# Altium schematic symbol library RFID.SchLib: 26 symbols
Pins are listed as number, name and electrical type; pins without a type are passive.

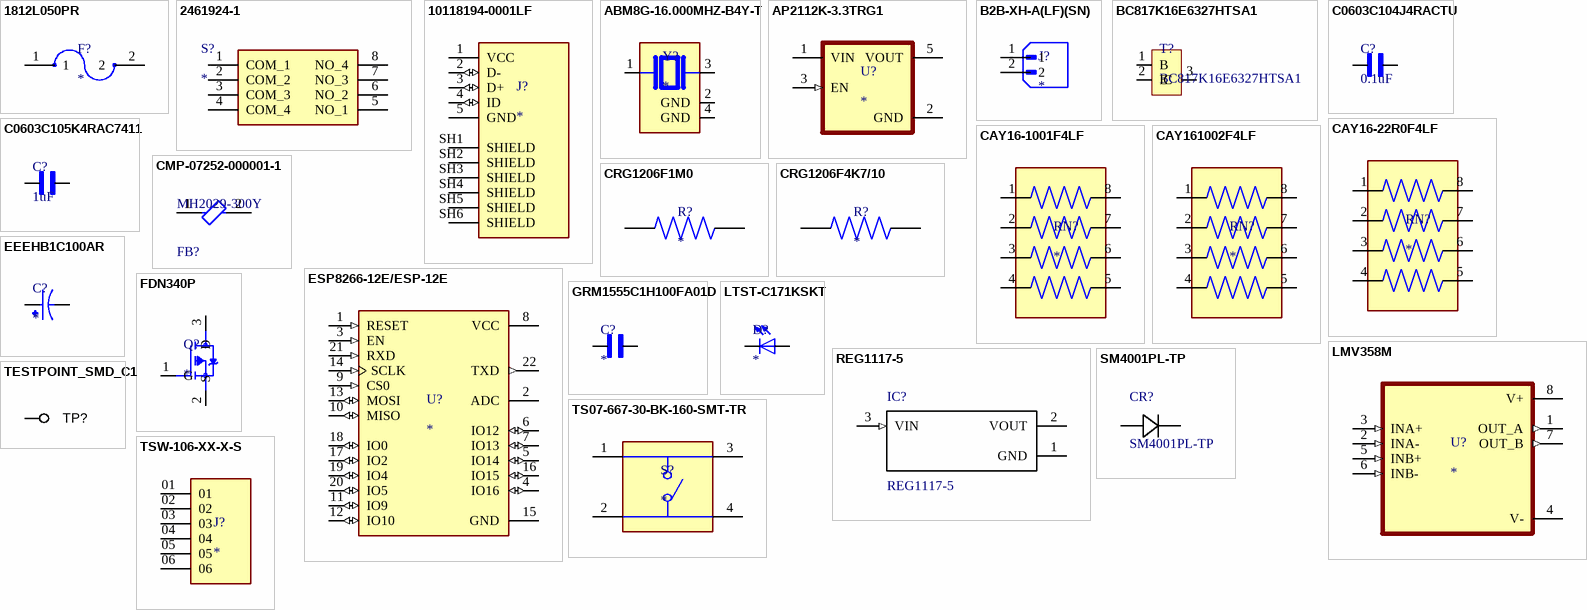
[diagram p0: symbols 1812L050PR to TSW-106-XX-X-S]

## 1812L050PR
designator F?
Polymeric PTC Resettable Fuse 15V 500mA Ih Surface Mount 1812 (4532 Metric), Concave; MP: 1812L050PR; MF: Littelfuse Inc.; Price: None; SnapEDA_Link: https://www.snapeda.com/parts/1812L050PR/Littelfuse%20Inc./view-part/46902/?ref=snap; Check_prices: https://www.snapeda.com/parts/1812L050PR/Littelfuse%20Inc./view-part/46902/?ref=eda; Package: 1812 Littelfuse Inc.; Availability: Good; Value: *; Purchase-URL: https://pricing.snapeda.com/search/part/1812L050PR/?ref=eda
footprint FUSM4632X75
pins: 1, 2

## 2461924-1
designator S?
Switch; Manufacturer_Name: TE Connectivity; Manufacturer_Part_Number: 2461924-1; Datasheet Link: https://www.te.com/commerce/DocumentDelivery/DDEController?Action=showdoc&DocId=Customer+Drawing%7F2461924%7F1%7Fpdf%7FEnglish%7FENG_CD_2461924_1.pdf%7F2461924-1; Height: 3.96mm; Mouser Part Number: 655-2461924-1; Mouser Price/Stock: https://www.mouser.co.uk/ProductDetail/TE-Connectivity-Alcoswitch/2461924-1?qs=1Kr7Jg1SGW%2FU7%2FCcD7QPxQ%3D%3D
footprint 24619241
pins: 1 COM_1, 2 COM_2, 3 COM_3, 4 COM_4, 5 NO_1, 6 NO_2, 7 NO_3, 8 NO_4

## 10118194-0001LF
designator J?
Micro USB, Input Output Connectors, B TYPE RECEPTACLE with flange; MF: Amphenol ICC; MP: 10118194-0001LF; SnapEDA_Link: https://www.snapeda.com/parts/10118194-0001LF/Amphenol+FCI/view-part/?ref=snap; Package: None; Value: *; Check_prices: https://www.snapeda.com/parts/10118194-0001LF/Amphenol+FCI/view-part/?ref=eda
footprint AMPHENOL_10118194-0001LF
pins: 1 VCC (power), 2 D- (io), 3 D+ (io), 4 ID (io), 5 GND (power), SH1 SHIELD, SH2 SHIELD, SH3 SHIELD, SH4 SHIELD, SH5 SHIELD, SH6 SHIELD

## ABM8G-16.000MHZ-B4Y-T
designator Y?
16 MHz Â±30ppm Kristal 10pF 80 Ohm 4-SMD, KurÅŸunsuz; MF: Abracon; MP: ABM8G-16.000MHZ-B4Y-T; Package: SMD-4 Abracon; Price: None; Availability: In Stock; Check_prices: https://www.snapeda.com/parts/ABM8G-16.000MHZ-B4Y-T/Abracon+LLC/view-part/?ref=eda; Purchase-URL: https://pricing.snapeda.com/search/part/ABM8G-16.000MHZ-B4Y-T/?ref=eda; SnapEDA_Link: https://www.snapeda.com/parts/ABM8G-16.000MHZ-B4Y-T/Abracon+LLC/view-part/?ref=snap; Value: *
footprint XTAL_ABM8G-16.000MHZ-B4Y-T
pins: 1, 2 GND (power), 3 2, 4 GND (power)

## AP2112K-3.3TRG1
designator U?
Linear Voltage Regulator IC Positive Fixed 1 Output 600mA SOT-25; MF: Diodes Inc.; MP: AP2112K-3.3TRG1; Value: *; Purchase-URL: https://pricing.snapeda.com/search/part/AP2112K-3.3TRG1/?ref=eda; Package: SOT-753 Diodes Inc.; Availability: In Stock; Check_prices: https://www.snapeda.com/parts/AP2112K-3.3TRG1/Diodes+Inc./view-part/?ref=eda; Price: None; SnapEDA_Link: https://www.snapeda.com/parts/AP2112K-3.3TRG1/Diodes+Inc./view-part/?ref=snap
footprint SOT95P285X140-5N
pins: 1 VIN (power), 2 GND (power), 3 EN (in), 5 VOUT (power)

## B2B-XH-A(LF)(SN)
designator J?
Connector Header Through Hole 2 position 0.098 (2.50mm); MF: JST Sales; MP: B2B-XH-A(LF)(SN); SnapEDA_Link: https://www.snapeda.com/parts/B2B-XH-A(LF)(SN)/JST/view-part/?ref=snap; Package: None; Value: *; Check_prices: https://www.snapeda.com/parts/B2B-XH-A(LF)(SN)/JST/view-part/?ref=eda
footprint JST_B2B-XH-A(LF)(SN)
pins: 1, 2

## BC817K16E6327HTSA1
designator T?
Small Signal Bipolar Transistor, 0.5A I(C), 45V V(BR)CEO, 1-Element, NPN, Silicon; Manufacturer: Infineon; Package Body Material: Plastic; Max Collector Current: 500mA; DC Current Gain-Min (hFE): 100; Number of Elements: 1; Transistor Application: AMPLIFIER; Frequency: 170MHz; Reference Standard: AEC-Q101; Supplier: Arrow Electronics; Supplier Part Number: BC817K16E6327HTSA1; Manufacturer Part Number: BC817K16E6327HTSA1; RoHS: Yes; Category: BJTs; Stock: 27000; Pricing: 3000=0.0597, 6000=0.055, 9000=0.0544, 12000=0.054, 15000=0.0534, 30000=0.0512 (USD); Pins: 3; Package Shape: Rectangular; Transistor Element Material: SILICON; Polarity/Channel Type: NPN; Collector-emitter Voltage-Max: 45V; JESD-30 Code: R-PDSO-G3; Moisture Sensitivity Level: 1; Package Style: SMALL OUTLINEMeter; Surface Mount: Yes; Terminal Form: Gull Wing; Terminal Position: DUAL; Reach SVHC Compliant: Yes; RoHS Compliant: Yes; ComponentLink1URL: https://datasheet.ciiva.com:443/pdfs/VipMasterIC/IC/INFN/INFNS16504/INFNS16504-1.pdf?src-supplier=IHS+Markit; ComponentLink1Description: https://datasheet.ciiva.com:443/pdfs/VipMasterIC/IC/INFN/INFNS16504/INFNS16504-1.pdf?src-supplier=IHS+Markit; ComponentLink2URL: https://datasheet.ciiva.com/25626/0900766b81073eee-25626027.pdf?src-supplier=Rs; ComponentLink2Description: https://datasheet.ciiva.com/25626/0900766b81073eee-25626027.pdf?src-supplier=Rs; ComponentLink3URL: https://datasheet.ciiva.com/11208/infineon-bc817kseries-bc818kseries-ds-v01-01-en-11208254.pdf?src-supplier=Avnet; ComponentLink3Description: https://datasheet.ciiva.com/11208/infineon-bc817kseries-bc818kseries-ds-v01-01-en-11208254.pdf?src-supplier=Avnet
footprint SOT95P245X110-3N (SOT23, 3-Leads, Body 2.90x2.45mm, Pitch 0.95mm, IPC Medium Density)
pins: 1 B (io), 2 E (io), 3 C (io)

## C0603C104J4RACTU
designator C?, comment 0.1uF
Capacitor;Ceramic;Cap;.0.1uF;Tol+5%;SMT;Vol-Rtg 16V;X7R;TR | KEMET C0603C104J4RACTU; SnapEDA_Link: https://www.snapeda.com/parts/C0603C104J4RACTU/KEMET/view-part/?ref=snap; Package: 603-2 KEMET; Value: *; MF: KEMET; MP: C0603C104J4RACTU; Check_prices: https://www.snapeda.com/parts/C0603C104J4RACTU/KEMET/view-part/?ref=eda
footprint CAPC1608X90
pins: 1, 2

## C0603C105K4RAC7411
designator C?, comment 1uF
Multilayer Ceramic Capacitors MLCC / SMD/SMT Multilayer Ceramic / Capacitors MLCC  SMD/SMT 16V / 1uF X7R 0603 10%; MP: C0603C105K4RAC7411; Package: None; Price: None; Value: *; Availability: Unavailable
footprint CAPC1608X90N
pins: 1, 2

## CAY16-22R0F4LF
designator RN?
22 Ohm Â±1% 62.5mW Power Per Element Isolated 4 Resistor Network/Array Â±200ppm/Â°C 1206 (3216 Metric), Convex, Long Side Terminals; MF: Bourns; MP: CAY16-22R0F4LF; SnapEDA_Link: https://www.snapeda.com/parts/CAY16-22R0F4LF/Bourns/view-part/?ref=snap; Package: NON STANDARD-8 Bourns; Value: *; Check_prices: https://www.snapeda.com/parts/CAY16-22R0F4LF/Bourns/view-part/?ref=eda
footprint RESCAF80P320X160X60-8N
pins: 1, 2, 3, 4, 5, 6, 7, 8

## CAY16-1001F4LF
designator RN?
Resistor,Thick Film,Networks & Arrays,1K Ohm,1%,8 Pin | Bourns CAY16-1001F4LF; SnapEDA_Link: https://www.snapeda.com/parts/CAY16-1001F4LF/Bourns/view-part/?ref=snap; Package: NON STANDARD-8 Bourns; Value: *; MF: Bourns; MP: CAY16-1001F4LF; Check_prices: https://www.snapeda.com/parts/CAY16-1001F4LF/Bourns/view-part/?ref=eda
footprint RESCAF80P320X160X60-8N
pins: 1, 2, 3, 4, 5, 6, 7, 8

## CAY161002F4LF
designator RN?
10k Ohm Â±1% 62.5mW Power Per Element Isolated 4 Resistor Network/Array Â±200ppm/Â°C 1206 (3216 Metric), Convex, Long Side Terminals; MF: Bourns Electronics; MP: CAY161002F4LF; SnapEDA_Link: https://www.snapeda.com/parts/CAY161002F4LF/Bourns/view-part/?ref=snap; Package: NON STANDARD-8 Bourns; Value: *; Check_prices: https://www.snapeda.com/parts/CAY161002F4LF/Bourns/view-part/?ref=eda
footprint RESCAF80P320X160X60-8N
pins: 1, 2, 3, 4, 5, 6, 7, 8

## CMP-07252-000001-1
designator FB?, comment MH2029-300Y
FERRITE BEAD 30 OHM 0805 1LN; Manufacturer: Bourns; Series Resistance: 25mΩ; Resistance: 30Ω; Value: 30Ω; Impedance At Frequency: 30Ω @ 100MHz; Rms Current: 3A; Tolerance: 25%; RoHS: TRUE; Manufacturer Part Number: MH2029-300Y; Temperature Range High: +125°C; Device Class L3: Ferrite Beads and Chips; Core Material: Ferrite; ComponentLink2Description: Datasheet; Category: FBead; Octopart: https://octopart.com/mh2029-300y-bourns-756929; Digikey Description: FERRITE BEAD 30 OHM 0805 1LN; Device Class L2: EMI / RFI Components; Lead Free: Yes; Mouser Description: Ferrite Beads 30 ohms 25% HIGH CURRENT; Automotive: No; Ipc Land Pattern Name: CAPC200120X90; Temperature: -55°C to +125°C; Device Class L1: Passive Components; Height: 1.1mm; ComponentLink2URL: https://www.bourns.com/docs/Product-Datasheets/mh.pdf; Package: MH2029; Temperature Range Low: -55°C
footprint FP-MH2029-IPC_A
pins: 1, 2

## CRG1206F1M0
designator R?
Resistor, Thick Film, Res 1 Ohms, Pwr-Rtg 0.25 W, Tol 1%, SMT, 1206 | TE Connectivity CRG1206F1M0; Power_Rating: .25 W; Resistance: 1M; Voltage_Rating: 200 V; SnapEDA_Link: https://www.snapeda.com/parts/CRG1206F1M0/TE+Connectivity+Passive+Product/view-part/?ref=snap; Package: 1206; Value: *; MF: TE Connectivity; MP: CRG1206F1M0; EU_RoHS_Compliance: Compliant with Exemptions; Tolerance: 1%; Check_prices: https://www.snapeda.com/parts/CRG1206F1M0/TE+Connectivity+Passive+Product/view-part/?ref=eda
footprint RESC3115X65N
pins: 1, 2

## CRG1206F4K7/10
designator R?
Res Thick Film 1206 4.7K Ohm 1% 0.25W(1/4W) Â±100ppm/C Pad SMD T/R; Power_Rating: .25 W; MF: TE Connectivity; MP: CRG1206F4K7/10; Voltage_Rating: 200 V; SnapEDA_Link: https://www.snapeda.com/parts/CRG1206F4K7/10/TE+Connectivity/view-part/?ref=snap; Package: 1206; Resistance: 4.7K; Value: *; EU_RoHS_Compliance: Compliant with Exemptions; Tolerance: 1%; Check_prices: https://www.snapeda.com/parts/CRG1206F4K7/10/TE+Connectivity/view-part/?ref=eda
footprint RESC3115X65N
pins: 1, 2

## EEEHB1C100AR
designator C?
10ÂµF 16V Aluminum Electrolytic Capacitors Radial, Can - SMD 2000 Hrs @ 105Â°C; MP: EEE-HB1C100AR; MF: Panasonic; SnapEDA_Link: https://www.snapeda.com/parts/EEE-HB1C100AR/Panasonic/view-part/?ref=snap; Availability: In Stock; Purchase-URL: https://pricing.snapeda.com/search/part/EEE-HB1C100AR/?ref=eda; Price: None; Check_prices: https://www.snapeda.com/parts/EEE-HB1C100AR/Panasonic/view-part/?ref=eda; Value: *; Package: RADIAL-2 Panasonic
footprint CAP_EEEHB1C100AR
pins: 1, 2

## ESP8266-12E/ESP-12E
designator U?
This WiFi module has a 32-bit MCU micro and clock speeds supporting 80 MHz or 160 MHz. Supports the RTOS and integrated Wi-Fi MAC/BB/RF/PA/LNA, and has an on-board antenna.; MF: AI-Thinker; MP: ESP8266-12E/ESP-12E; Value: *; SnapEDA_Link: https://www.snapeda.com/parts/ESP8266-12E/ESP-12E/AI-Thinker/view-part/?ref=snap; Availability: Not in stock; Price: None; Package: None; Check_prices: https://www.snapeda.com/parts/ESP8266-12E/ESP-12E/AI-Thinker/view-part/?ref=eda
footprint XCVR_ESP8266-12E/ESP-12E
pins: 1 RESET (in), 2 ADC, 3 EN (in), 4 IO16 (io), 5 IO14 (io), 6 IO12 (io), 7 IO13 (io), 8 VCC (power), 9 CS0 (in), 10 MISO (io), 11 IO9 (io), 12 IO10 (io), 13 MOSI (io), 14 SCLK (in), 15 GND (power), 16 IO15 (io), 17 IO2 (io), 18 IO0 (io), 19 IO4 (io), 20 IO5 (io), 21 RXD (in), 22 TXD (out)

## FDN340P
designator Q?
P-Channel 20 V 2A (Ta) 500mW (Ta) Surface Mount SOT-23-3; MF: onsemi; MP: FDN340P; SnapEDA_Link: https://www.snapeda.com/parts/FDN340P/Onsemi/view-part/?ref=snap; Package: TO-236-3 ON; Value: *; Check_prices: https://www.snapeda.com/parts/FDN340P/Onsemi/view-part/?ref=eda
footprint SOT95P240X120-3N
pins: 1 G, 2 S, 3 D

## GRM1555C1H100FA01D
designator C?
SMD Capacitor C0G(EIA) with Capacitance: 10pF Tol. 1%. Rated Voltage: 50Vdc; MF: Murata; MP: GRM1555C1H100FA01D; SnapEDA_Link: https://www.snapeda.com/parts/GRM1555C1H100FA01D/Murata/view-part/?ref=snap; Package: 1005-2 Murata; Value: *; Check_prices: https://www.snapeda.com/parts/GRM1555C1H100FA01D/Murata/view-part/?ref=eda
footprint CAPC1005X55N
pins: 1, 2

## LMV358M
designator U?
Dual, 5.5-V, 1-MHz op amp; MF: Texas Instruments; MP: LMV358M/NOPB; SnapEDA_Link: https://www.snapeda.com/parts/LMV358M/NOPB/Texas+Instruments/view-part/?ref=snap; Package: SOIC-8 Texas Instruments; Value: *; Check_prices: https://www.snapeda.com/parts/LMV358M/NOPB/Texas+Instruments/view-part/?ref=eda
footprint SOIC127P599X175-8N
pins: 1 OUT_A (out), 2 INA- (in), 3 INA+ (in), 4 V- (power), 5 INB+ (in), 6 INB- (in), 7 OUT_B (out), 8 V+ (power)

## LTST-C171KSKT
designator D?
Yellow 587nm LED Indication - Discrete 2V 0805 (2012 Metric); MF: Lite-On Inc.; MP: LTST-C171KSKT; SnapEDA_Link: https://www.snapeda.com/parts/LTST-C171KSKT/Lite-On/view-part/?ref=snap; Package: 0805 Lite-On; Value: *; Check_prices: https://www.snapeda.com/parts/LTST-C171KSKT/Lite-On/view-part/?ref=eda
footprint DIOC200X125X110
pins: NEG, POS

## REG1117-5
designator IC?
800-mA, 15-V, linear voltage regulator; MF: Texas Instruments; SnapEDA_Link: https://www.snapeda.com/parts/REG1117-5/Texas+Instruments/view-part/?ref=snap; Package: SOT-223-4 Texas Instruments; MP: REG1117-5; Check_prices: https://www.snapeda.com/parts/REG1117-5/Texas+Instruments/view-part/?ref=eda; Value: *
footprint *SOT230P700X180-4N
pins: 1 GND (power), 2 VOUT (power), 3 VIN (in)

## SM4001PL-TP
designator CR?
Diode Standard 50 V 1A Surface Mount SOD-123FL; MF: Micro Commercial; SnapEDA_Link: https://www.snapeda.com/parts/SM4001PL-TP/Micro+Commercial+Components/view-part/?ref=snap; Package: SOD-123F MCC; MP: SM4001PL-TP; Check_prices: https://www.snapeda.com/parts/SM4001PL-TP/Micro+Commercial+Components/view-part/?ref=eda; Value: *
footprint *SOD-123FL_MCC
pins: 1, 2

## TESTPOINT_SMD_C1
designator TP?  (value not drawn)  (no BOM)
TEST POINT; MANF: MANF; MANF_P#: MANF_P#; VALUE: VALUE
footprint TPSMD_C60 (Test Point, SMD Pad, Circle, 0.6mm X 0.6mm)
pins: 1

## TS07-667-30-BK-160-SMT-TR
designator S?
6 x 6.7 mm, 3 mm Actuator Height, 160 gf, Black, Surface Mount, SPST, Tactile Switch; MF: Same Sky; MP: TS07-667-30-BK-160-SMT-TR; SnapEDA_Link: https://www.snapeda.com/parts/TS07-667-30-BK-160-SMT-TR/Same+Sky/view-part/?ref=snap; Package: None; Value: *; Check_prices: https://www.snapeda.com/parts/TS07-667-30-BK-160-SMT-TR/Same+Sky/view-part/?ref=eda
footprint SW_TS07-667-30-BK-160-SMT-TR
pins: 1, 2, 3, 4

## TSW-106-XX-X-S
designator J?
Connector Header Through Hole 6 position 0.100 (2.54mm); MF: Samtec; MP: TSW-106-26-T-S; SnapEDA_Link: https://www.snapeda.com/parts/TSW-106-26-T-S/Samtec/view-part/?ref=snap; Package: None; Value: *; Check_prices: https://www.snapeda.com/parts/TSW-106-26-T-S/Samtec/view-part/?ref=eda
footprint SAMTEC_TSW-106-XX-X-S
pins: 01, 02, 03, 04, 05, 06